# Altium schematic symbol library SPEC_A7.SCHLIB: 116 symbols (part 3 of 3)
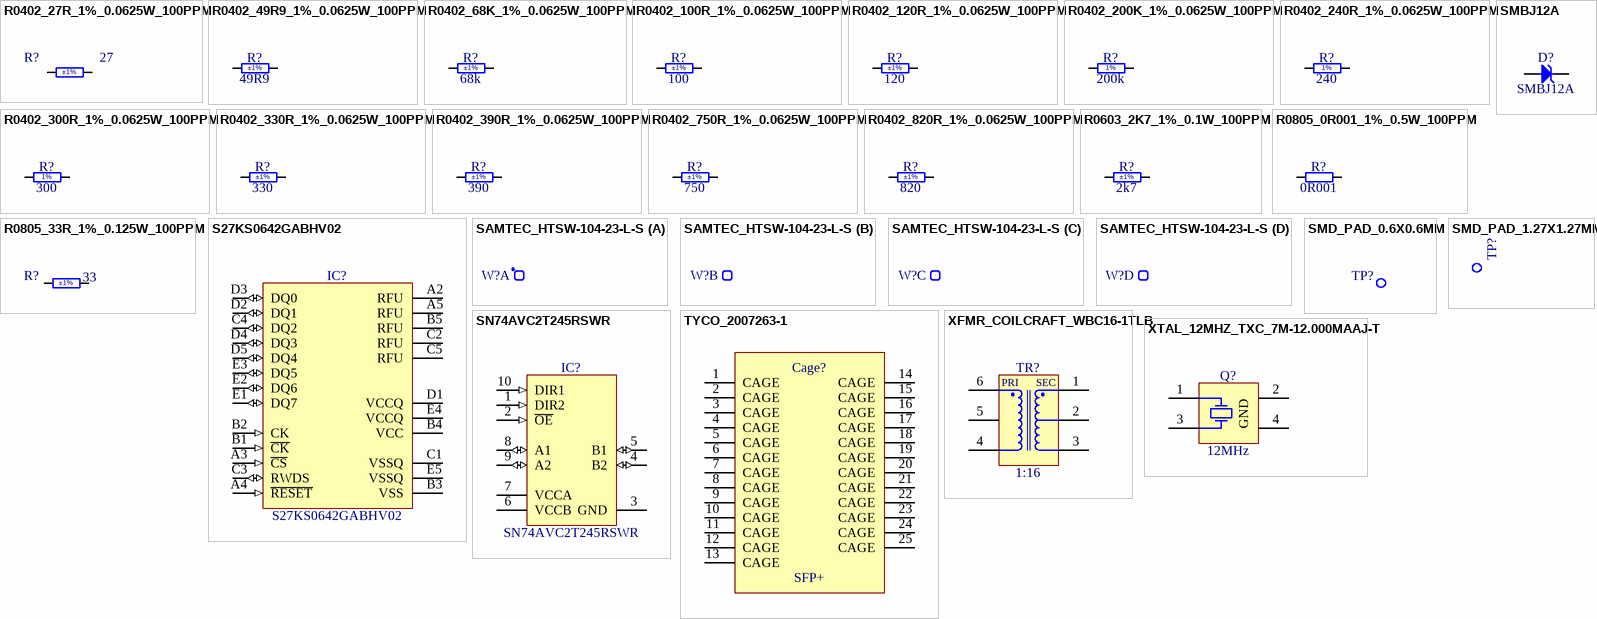
[diagram p6: symbols R0402_27R_1%_0.0625W_100PPM to XTAL_12MHZ_TXC_7M-12.000MAAJ-T]

## R0402_390R_1%_0.0625W_100PPM
designator R?, comment 390  Tolerance: ±1%
Resistor - 1%; Part Number: R0402_390R_1%_0.0625W_100PPM; Part Description: General Purpose Thick Film Chip Resistor; Manufacturer: GENERIC; Manufacturer1 Part Number: 232270673901L; Power: 0.0625W; TC: ±100ppm/°C; PressFit: No; Component Kind: Standard; Component Type: Standard; Footprint: RESC1005X40N; Pin Count: 2; Value: 390; Status: Not Recommended; Manufacturer Part Number: R0402_390R_1%_0.0625W_100PPM; Case: 0402; Mounted: Yes; Sense: No; Socket: No; SMD: Yes; Manufacturer1 Example: YAGEO PHYCOMP; Manufacturer1 ComponentHeight: 0.4mm; HelpURL: \\cern.ch\dfs\Applications\Altium\Datasheets\R0402_Phycomp_RC0402.pdf; Author: CERN DEM JLC; CreateDate: 03.12.2007; LatestRevisionDate: 17.10.2012
footprint RESC1005X40N
pins: 1, 2

## R0402_750R_1%_0.0625W_100PPM
designator R?, comment 750  Tolerance: ±1%
Resistor - 1%; Part Number: R0402_750R_1%_0.0625W_100PPM; Part Description: General Purpose Thick Film Chip Resistor; Manufacturer: GENERIC; Manufacturer1 Part Number: 232270677501L; Power: 0.0625W; TC: ±100ppm/°C; PressFit: No; Component Kind: Standard; Component Type: Standard; Footprint: RESC1005X40N; Pin Count: 2; Value: 750; Status: Not Recommended; Manufacturer Part Number: R0402_750R_1%_0.0625W_100PPM; Case: 0402; Mounted: Yes; Sense: No; Socket: No; SMD: Yes; Manufacturer1 Example: YAGEO PHYCOMP; Manufacturer1 ComponentHeight: 0.4mm; HelpURL: \\cern.ch\dfs\Applications\Altium\Datasheets\R0402_Phycomp_RC0402.pdf; Author: CERN DEM JLC; CreateDate: 03.12.2007; LatestRevisionDate: 17.10.2012
footprint RESC1005X40N
pins: 1, 2

## R0402_820R_1%_0.0625W_100PPM
designator R?, comment 820  Tolerance: ±1%
Resistor - 1%; Part Number: R0402_820R_1%_0.0625W_100PPM; Part Description: General Purpose Thick Film Chip Resistor; Manufacturer: GENERIC; Manufacturer1 Part Number: 232270678201L; Power: 0.0625W; TC: ±100ppm/°C; PressFit: No; Component Kind: Standard; Component Type: Standard; Footprint: RESC1005X40N; Pin Count: 2; Value: 820; Status: Not Recommended; Manufacturer Part Number: R0402_820R_1%_0.0625W_100PPM; Case: 0402; Mounted: Yes; Sense: No; Socket: No; SMD: Yes; Manufacturer1 Example: YAGEO PHYCOMP; Manufacturer1 ComponentHeight: 0.4mm; HelpURL: \\cern.ch\dfs\Applications\Altium\Datasheets\R0402_Phycomp_RC0402.pdf; Author: CERN DEM JLC; CreateDate: 03.12.2007; LatestRevisionDate: 17.10.2012
footprint RESC1005X40N
pins: 1, 2

## R0603_2K7_1%_0.1W_100PPM
designator R?, comment 2k7  Tolerance: ±1%
Resistor - 1%; Part Number: R0603_2K7_1%_0.1W_100PPM; Part Description: General Purpose Thick Film Chip Resistor; Manufacturer: GENERIC; Manufacturer1 Part Number: RC0603FR-072K7L; Power: 0.1W; TC: ±100ppm/°C; PressFit: No; Component Kind: Standard; Component Type: Standard; Footprint: RESC1608X55N; Pin Count: 2; Value: 2k7; Status: Preferred; Manufacturer Part Number: R0603_2K7_1%_0.1W_100PPM; Case: 0603; Mounted: Yes; Sense: No; Socket: No; SMD: Yes; Manufacturer1 Example: YAGEO PHYCOMP; Manufacturer1 ComponentHeight: 0.55mm; HelpURL: \\cern.ch\dfs\Applications\Altium\Datasheets\R0603_PHYCOMP_RC0603.pdf; Author: CERN DEM JLC; CreateDate: 02.05.2011; LatestRevisionDate: 02.05.2011
footprint RESC1608X55N
pins: 1, 2

## R0805_0R001_1%_0.5W_100PPM
designator R?, comment 0R001
SMD current sensing resistor- metal strip; Part Number: MSMA0805R0010FSM; Part Description: R0805_0R001_1%_0.5W_100PPM; Manufacturer: GENERIC; PressFit: No; Component Kind: Standard; Component Type: Standard; Footprint: RESC2012X60N; Pin Count: 2; Value: 0R001; Status: Preferred; Manufacturer Part Number: R0805_0R001_1%_0.5W_100PPM; Case: 0805; Mounted: Yes; Sense: No; Socket: No; SMD: Yes; Manufacturer1 Example: Eaton; Manufacturer1 Part Number: MSMA0805R0010FSM; Manufacturer1 ComponentHeight: 0.6mm; HelpURL: \\cern.ch\dfs\Applications\Altium\Datasheets\R0805_NIC_NRC.pdf; Author: GK; CreateDate: 03.12.2007; LatestRevisionDate: 13.03.2008
footprint RESC2012X60N
pins: 1, 2

## R0805_33R_1%_0.125W_100PPM
designator R?, comment 33  Tolerance: ±1%
Resistor - 1%; Part Number: R0805_33R_1%_0.125W_100PPM; Part Description: General Purpose Thick Film Chip Resistor; Manufacturer: GENERIC; Manufacturer1 Part Number: NRC10F33R0TRF; PressFit: No; Power: 0.125W; TC: ±100ppm/°C; Component Kind: Standard; Component Type: Standard; Footprint: RESC2012X60N; Pin Count: 2; Value: 33; Status: Preferred; Manufacturer Part Number: R0805_33R_1%_0.125W_100PPM; Case: 0805; Mounted: Yes; Sense: No; Socket: No; SMD: Yes; Manufacturer1 Example: NIC COMPONENT; Manufacturer1 ComponentHeight: 0.6mm; HelpURL: \\cern.ch\dfs\Applications\Altium\Datasheets\R0805_NIC_NRC.pdf; Author: CERN DEM JLC; CreateDate: 03.12.2007; LatestRevisionDate: 13.03.2008
footprint RESC2012X60N
pins: 1, 2

## S27KS0642GABHV02
designator IC?
1.8V, Multiple I/O Serial NOR Flash Memory, with Reset# & Hold# Pins; Part Description: 64Mb HYPERRAM™ self-refresh DRAM (PSRAM) HYPERBUS™ interface, 1.8 V; Manufacturer: INFINEON; PressFit: No; Bonding: No; Part Number: S27KS0642GABHV02; Component Kind: Standard; Component Type: Standard; Device: S27KS0642GABHV02; Footprint: BGA24C100P5X5_600X800X100; PackageDescription: BGA, 0.80mm Pitch, Rect.; 24 Pin, 5 Columns X 5 Rows, 6.00mm X 8.00mm X 1.00mm H; Manufacturer Part Number: S27KS0642GABHV02; Pin Count: 24; Case: BGA24; Mounted: Yes; Socket: No; SMD: Yes; Sense: No; ComponentHeight: 1mm; HelpURL: \\cern.ch\dfs\Applications\Altium\Datasheets\S27KS0642GABHV02.pdf; Author: CERN DEM HF; CreateDate: 03.12.2024; LatestRevisionDate: 03.12.2024
footprint BGA24C100P5X5_600X800X100
pins: A2 RFU, A3 ~{CS} (in), A4 ~{RESET} (in), A5 RFU, B1 ~{CK} (in), B2 CK (in), B3 VSS (power), B4 VCC (power), B5 RFU, C1 VSSQ (power), C2 RFU, C3 RWDS (io), C4 DQ2 (io), C5 RFU, D1 VCCQ (power), D2 DQ1 (io), D3 DQ0 (io), D4 DQ3 (io), D5 DQ4 (io), E1 DQ7 (io), E2 DQ6 (io), E3 DQ5 (io), E4 VCCQ (power), E5 VSSQ (power)
1 alternate drawing of the same symbol

## SAMTEC_HTSW-104-23-L-S
designator W?, comment Header 4  (value not drawn)
4 Mini Wire-Wrap Contact Strip Header; Part Number: SAMTEC_HTSW-104-23-L-S; Part Description: 4 Contacts, Pitch 2.54mm, Single Row  Through Mount Straight Header (Post Lead 5.84mm, Tail Lead 2.92mm, Insulator 2.54mm); Manufacturer: SAMTEC; Manufacturer Part Number: HTSW-104-23-L-S; PressFit: No; Status Comment: High Temperature; Component Kind: Standard; Component Type: Standard; Footprint: SAMTEC_HTSW-104-23-L-S; Pin Count: 4; Family: Header 4; Mounted: Yes; Socket: No; Sense: No; SMD: No; Status: Preferred; ComponentHeight: 8.38mm; HelpURL: \\cern.ch\dfs\Applications\Altium\Datasheets\SAMTEC_HTSW-104-23-L-S.pdf; Author: CERN DEM JLC; CreateDate: 22/02/2018; LatestRevisionDate: 22/02/2018
footprint SAMTEC_HTSW-104-23-L-S
part A pins: 1 (io)
part B pins: 2 (io)
part C pins: 3 (io)
part D pins: 4 (io)

## SMBJ12A
designator D?
Zener Diode; Part Description: Uni-Directional Transient Voltage Suppressor Diode; Manufacturer: FAIRCHILD SEMICONDUCTOR; Voltage: 12V; Power: 600W; PressFit: No; Bonding: No; Part Number: SMBJ12A; Component Kind: Standard; Component Type: Standard; Device: SMBJ12A; Footprint: DIOM5336X265N; PackageDescription: DO-214-AA/SMB Diode, Molded Body; 5.34mm L X 3.625mm W X 2.65mm H, IPC Medium Density; Manufacturer Part Number: SMBJ12A; Pin Count: 2; Case: DO-214AA; Mounted: Yes; Socket: No; SMD: Yes; Sense: No; ComponentHeight: 2.65mm; HelpURL: \\cern.ch\dfs\Applications\Altium\Datasheets\SMBJ.pdf; Author: CERN DEM JLC; CreateDate: 10.04.2013; LatestRevisionDate: 10.04.2013
footprint DIOM5336X265N
pins: 1 C, 2 A

## SMD_PAD_0.6X0.6MM
designator TP?, comment Test Point  (value not drawn)
Part Number: SMD_PAD_0.6X0.6MM; Part Description: 0.6mm x 0.6mm PCB Copper Area (SMD Test Point); Mounted: No; Component Kind: Standard (No BOM); Component Type: Standard (No BOM); Footprint: TPS060; Pin Count: 1; Family: Test Point; Socket: No; SMD: Yes; Sense: No; Status: None; ComponentHeight: 0mm; HelpURL: Undefined; Author: CERN DEM HF; CreateDate: 24.05.2023; LatestRevisionDate: 24.05.2023; PackageDescription: 0.6mm x 0.6mm PCB Copper Area (SMD Test Point)
footprint TPS060
pins: 1 (io)

## SMD_PAD_1.27X1.27MM
designator TP?, comment Test Point  (value not drawn)  (no BOM)
Part Number: SMD_PAD_1.27X1.27MM; Part Description: 1.27mm x 1.27mm PCB Copper Area (SMD Test Point); Mounted: No; Component Type: Standard (No BOM); Footprint: TPS127; Pin Count: 1; Family: Test Point; Socket: No; SMD: Yes; Sense: No; Status: None; ComponentHeight: 0mm; HelpURL: Undefined; Author: CERN DEM JLC; CreateDate: 12.01.2008; LatestRevisionDate: 12.01.2008; PackageDescription: 1.27mm x 1.27mm PCB Copper Area (SMD Test Point)
footprint TPS127
pins: 1 (io)

## SN74AVC2T245RSWR
designator IC?
Dual-Bit Dual-Supply Bus Transceiver With Configurable Voltage Translation and 3-State Outputs; Manufacturer: TEXAS INSTRUMENTS; PressFit: No; Bonding: No; Part Number: SN74AVC2T245RSWR; Component Kind: Standard; Component Type: Standard; Device: SN74AVC2T245RSWR; Footprint: QFN40P140X180X55-10N; PackageDescription: QFN, 0.40mm Pitch, Rect.;10 Pin, 1.80mm L X 1.40mm W X 0.55mm H Body, IPC Medium Density; Status: Not Recommended; Part Description: Dual-Bit Dual-Supply Bus Transceiver With Configurable Voltage Translation and 3-State Outputs; Manufacturer Part Number: SN74AVC2T245RSWR; Pin Count: 10; Case: QFN10; Mounted: Yes; Socket: No; SMD: Yes; Sense: No; ComponentHeight: 0.55mm; Author: CERN DEM JLC; HelpURL: \\cern.ch\dfs\Applications\Altium\Datasheets\SN74AVC2T245RSWR.pdf; CreateDate: 07.07.2014; LatestRevisionDate: 30.03.2017
footprint QFN40P140X180X55-10N
pins: 1 DIR2 (in), 2 ~{OE} (in), 3 GND (power), 4 B2 (io), 5 B1 (io), 6 VCCB (power), 7 VCCA (power), 8 A1 (io), 9 A2 (io), 10 DIR1 (in)

## TYCO_2007263-1
designator Cage?, comment SFP+
SFP 1x2 Cage (25Pins); Part Number: TYCO_2007263-1; Part Description: 1x2 Press Fit SFP+ Cage with EMI Springs; Manufacturer: TYCO ELECTRONICS; Manufacturer Part Number: 2007263-1; Component Kind: Standard; Component Type: Standard; Footprint: TYCO_2007263-1; Pin Count: 25; Family: SFP+; Mounted: Yes; Socket: No; SMD: No; PressFit: Yes; Sense: No; Status: None; ComponentHeight: 9.7mm; HelpURL: \\cern.ch\dfs\Applications\Altium\Datasheets\TYCO_2007263-1.pdf; Author: CERN DEM JLC; CreateDate: 18.01.2017; LatestRevisionDate: 18.01.2017
footprint TYCO_2007263-1
pins: 1 CAGE (power), 2 CAGE (power), 3 CAGE (power), 4 CAGE (power), 5 CAGE (power), 6 CAGE (power), 7 CAGE (power), 8 CAGE (power), 9 CAGE (power), 10 CAGE (power), 11 CAGE (power), 12 CAGE (power), 13 CAGE (power), 14 CAGE (power), 15 CAGE (power), 16 CAGE (power), 17 CAGE (power), 18 CAGE (power), 19 CAGE (power), 20 CAGE (power), 21 CAGE (power), 22 CAGE (power), 23 CAGE (power), 24 CAGE (power), 25 CAGE (power)

## XFMR_COILCRAFT_WBC16-1TLB
designator TR?, comment 1:16
SMT Transformer WBC Series Type B Pinout; Part Number: XFMR_COILCRAFT_WBC16-1TLB; Part Description: Surface Mount Mini Wideband Transformer, WBC Series (Violet Dot); Manufacturer: COILCRAFT; Manufacturer Part Number: WBC16-1TL; Component Kind: Standard; Component Type: Standard; Footprint: XFMR_COILCRAFT_WBC; Pin Count: 6; Value: 1:16; Status: None; Mounted: Yes; Socket: No; Sense: No; SMD: Yes; ComponentHeight: 3.05mm; HelpURL: \\cern.ch\dfs\Applications\Altium\Datasheets\XFMR_COILCRAFT_WBC.pdf; Author: CERN DEM JLC; CreateDate: 27.09.2016; LatestRevisionDate: 27.09.2016
footprint XFMR_COILCRAFT_WBC
pins: 1 PDOT1, 2 PDOT2, 3 P, 4 S, 5 SDOT2, 6 SDOT1
text: PRI; SEC

## XTAL_12MHZ_TXC_7M-12.000MAAJ-T
designator Q?, comment 12MHz
Crystal 4 pins 1=XTAL Control 2=GND3=XTAL 4=GND; Part Number: XTAL_12MHZ_TXC_7M-12.000MAAJ-T; Part Description: ±30ppm 18pF -20°C to +70°C  4 Pins, 3.2x2.5X0.8mm, SMD Sealing Crystal, 7M Series; Manufacturer: TXC CORPORATION; Manufacturer Part Number: 7M-12.000MAAJ-T; PressFit: No; Bonding: No; Component Kind: Standard; Component Type: Standard; Footprint: XTAL_TXC_7M; PackageDescription: 4 Pins, 2.5x3.2mm, SMD Sealing Crystal, 7M Serie; Value: 12MHz; Pin Count: 4; Mounted: Yes; Socket: No; SMD: Yes; Sense: No; ComponentHeight: 0.8mm; HelpURL: \\cern.ch\dfs\Applications\Altium\Datasheets\XTAL_TXC_7M.pdf; Author: CERN DEM JLC; CreateDate: 19.06.2012; LatestRevisionDate: 19.06.2012
footprint XTAL_TXC_7M
pins: 1 X, 2 GND (power), 3 X, 4 GND (power)